# EAGLE library part SN74AUP2G00DCUR (library edrtech_lib)
LOW-POWER DUAL 2-INPUT POSITIVE-NAND GATE Source: Datasheet <http://www.ti.com/lit/gpn/sn74aup2g00>
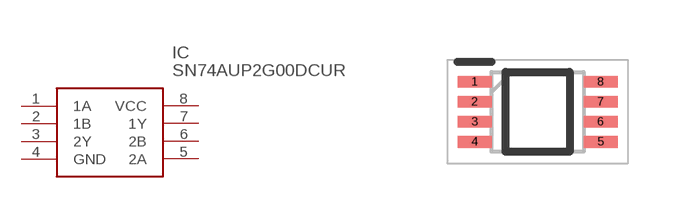
[diagram p53: symbol with the pads of SOP50P310X90-8N; footprint SOP50P310X90-8N]

Designator prefix IC

## SN74AUP2G00DCUR (ARROW_PART_NUMBER: SN74AUP2G00DCUR; ARROW_PRICE-STOCK: https://www.arrow.com/en/products/sn74aup2g00dcur/texas-instruments?region=nac; DESCRIPTION: LOW-POWER DUAL 2-INPUT POSITIVE-NAND GATE; HEIGHT: 0.9mm; MANUFACTURER_NAME: Texas Instruments; MANUFACTURER_PART_NUMBER: SN74AUP2G00DCUR; MOUSER_PART_NUMBER: 595-SN74AUP2G00DCUR; MOUSER_PRICE-STOCK: https://www.mouser.co.uk/ProductDetail/Texas-Instruments/SN74AUP2G00DCUR?qs=%2Fqzd9s%252BcLd4Cllum%2F%252Bgttg%3D%3D)  [SOP50P310X90-8N]
1  1A
2  1B
3  2Y
4  GND
5  2A
6  2B
7  1Y
8  VCC

## Footprint SOP50P310X90-8N (pad centres in mm)
DCU (R-PDSO-G8)
smd 0.85 x 0.3: 1 -1.575,0.75; 2 -1.575,0.25; 3 -1.575,-0.25; 4 -1.575,-0.75; 5 1.575,-0.75; 6 1.575,-0.25; 7 1.575,0.25; 8 1.575,0.75